# Altium footprint library SnapEDApcb.PcbLib: 1 footprints
Each footprint in its own frame and in the unit in brackets; x right, y up, seen from the top. Pads: shape width x height; smd on the part's side, far side on the other; paste and mask are expansions set on the pad; w line width, h text height; cw(c..) or ccw(c..) is an arc to the next point about the centre after c.
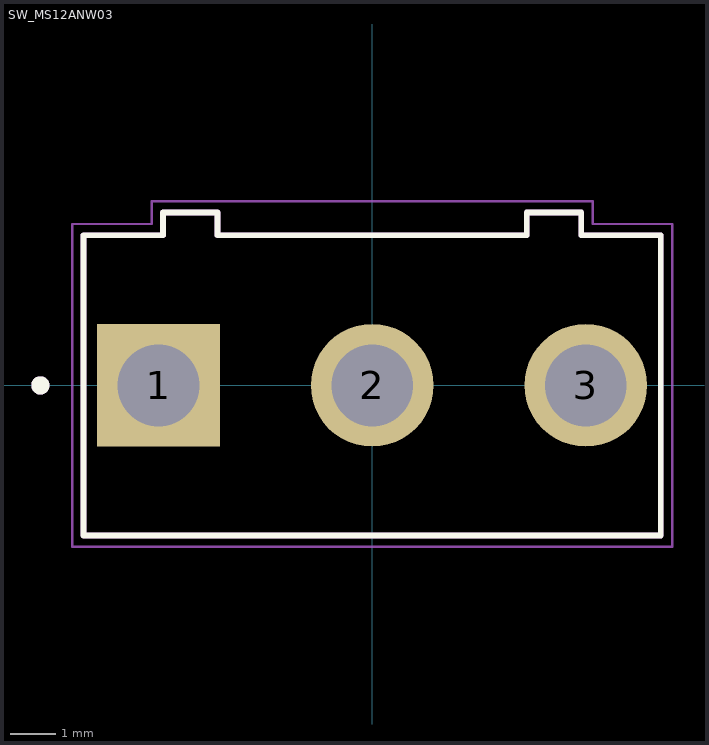
[diagram p0: the footprint, top view; thin cyan lines are the x and y axes]

## SW_MS12ANW03 [mm]
pads (3):
  rect 2.7x2.7 hole 1.8: 1(-4.7,0)
  round 2.7 hole 1.8: 2(0,0) 3(4.7,0)
Top Overlay:
  circle w0.2: c-7.3,0 r0.1
  lines w0.127: -6.35,-3.3 -6.35,3.3 -4.6,3.3 -4.6,3.8 -3.4,3.8 -3.4,3.3 3.4,3.3 3.4,3.8 4.6,3.8 4.6,3.3 6.35,3.3 6.35,-3.3 -6.35,-3.3
Mechanical 13:
  circle w0.2: c-7.3,0 r0.1
  lines w0.127: -6.35,-3.3 -6.35,3.3 -4.6,3.3 -4.6,3.8 -3.4,3.8 -3.4,3.3 3.4,3.3 3.4,3.8 4.6,3.8 4.6,3.3 6.35,3.3 6.35,-3.3 -6.35,-3.3
Mechanical 15:
  lines w0.05: -6.6,-3.55 -6.6,3.55 -4.85,3.55 -4.85,4.05 4.85,4.05 4.85,3.55 6.6,3.55 6.6,-3.55 -6.6,-3.55